# Altium footprint library 星月孔 封装下载.PcbLib: 1 footprints
Each footprint in its own frame and in the unit in brackets; x right, y up, seen from the top. Pads: shape width x height; smd on the part's side, far side on the other; paste and mask are expansions set on the pad; w line width, h text height; cw(c..) or ccw(c..) is an arc to the next point about the centre after c.
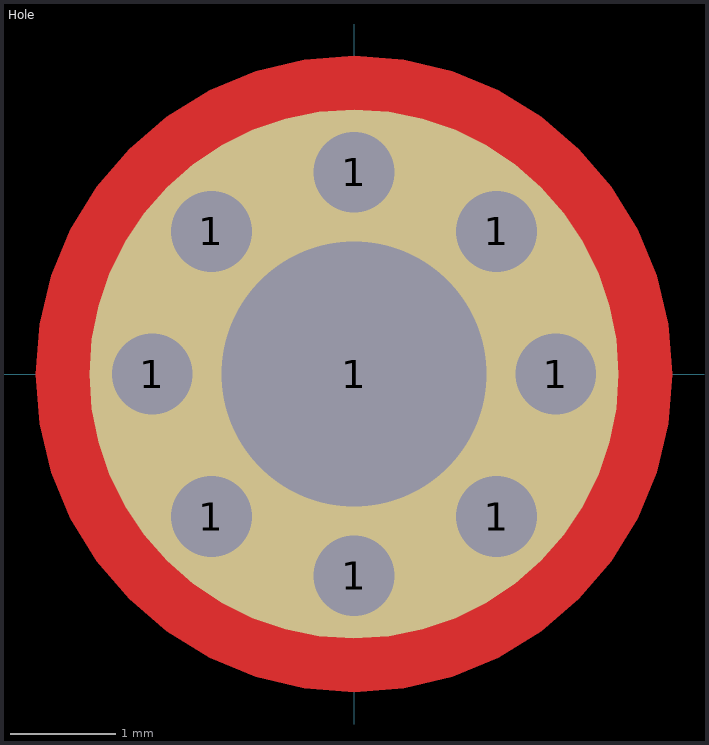
[diagram p0: the footprint, top view; thin cyan lines are the x and y axes]

## Hole [mm]
pads (9):
  round 1 hole 0.762: 1(-1.905,0) 1(-1.347,-1.347) 1(-1.347,1.347) 1(0,-1.905) 1(0,1.905) 1(1.347,-1.347) 1(1.347,1.347) 1(1.905,0)
  round 5 hole 2.5: 1(0,0)
Top Layer:
  pour cut-out: -3.007,0 -2.97,-0.47 -2.859,-0.929 -2.679,-1.365 -2.432,-1.767 -2.126,-2.126 -1.767,-2.432 -1.365,-2.679 -0.929,-2.859 -0.47,-2.97 0,-3.007 0.47,-2.97 0.929,-2.859 1.365,-2.679 1.767,-2.432 2.126,-2.126 2.432,-1.767 2.679,-1.365 2.859,-0.929 2.97,-0.47 3.007,0 2.97,0.47 2.859,0.929 2.679,1.365 2.432,1.767 2.126,2.126 1.767,2.432 1.365,2.679 0.929,2.859 0.47,2.97 0,3.007 -0.47,2.97 -0.929,2.859 -1.365,2.679 -1.767,2.432 -2.126,2.126 -2.432,1.767 -2.679,1.365 -2.859,0.929 -2.97,0.47